# Altium schematic symbol library ABM3-8.000MHz-D2Y-T.SchLib: 1 symbol
Pins are listed as number, name and electrical type; pins without a type are passive.

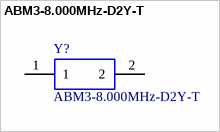
[diagram p0: symbol ABM3-8.000MHz-D2Y-T]

## ABM3-8.000MHz-D2Y-T
designator Y?
Abracon 6 MHz, 8 MHz Crystal 20 ppm, 30 ppm 2-SMD, HC49/US, No Lead; Geometry.Height: 1mm; Mouser Part Number: 815-ABM3-8-D2Y-T; Manufacturer_Name: ABRACON; Manufacturer_Part_Number: ABM3-8.000MHz-D2Y-T; Datasheet Link: https://componentsearchengine.com/Datasheets/1/ABM3-8.000MHZ-D2Y-T.pdf
footprint ABM38000MHzD2YT
pins: 1, 2